# Altium footprint library SMD SOT.PcbLib: 9 footprints
Each footprint in its own frame and in the unit in brackets; x right, y up, seen from the top. Pads: shape width x height; smd on the part's side, far side on the other; paste and mask are expansions set on the pad; w line width, h text height; cw(c..) or ccw(c..) is an arc to the next point about the centre after c.
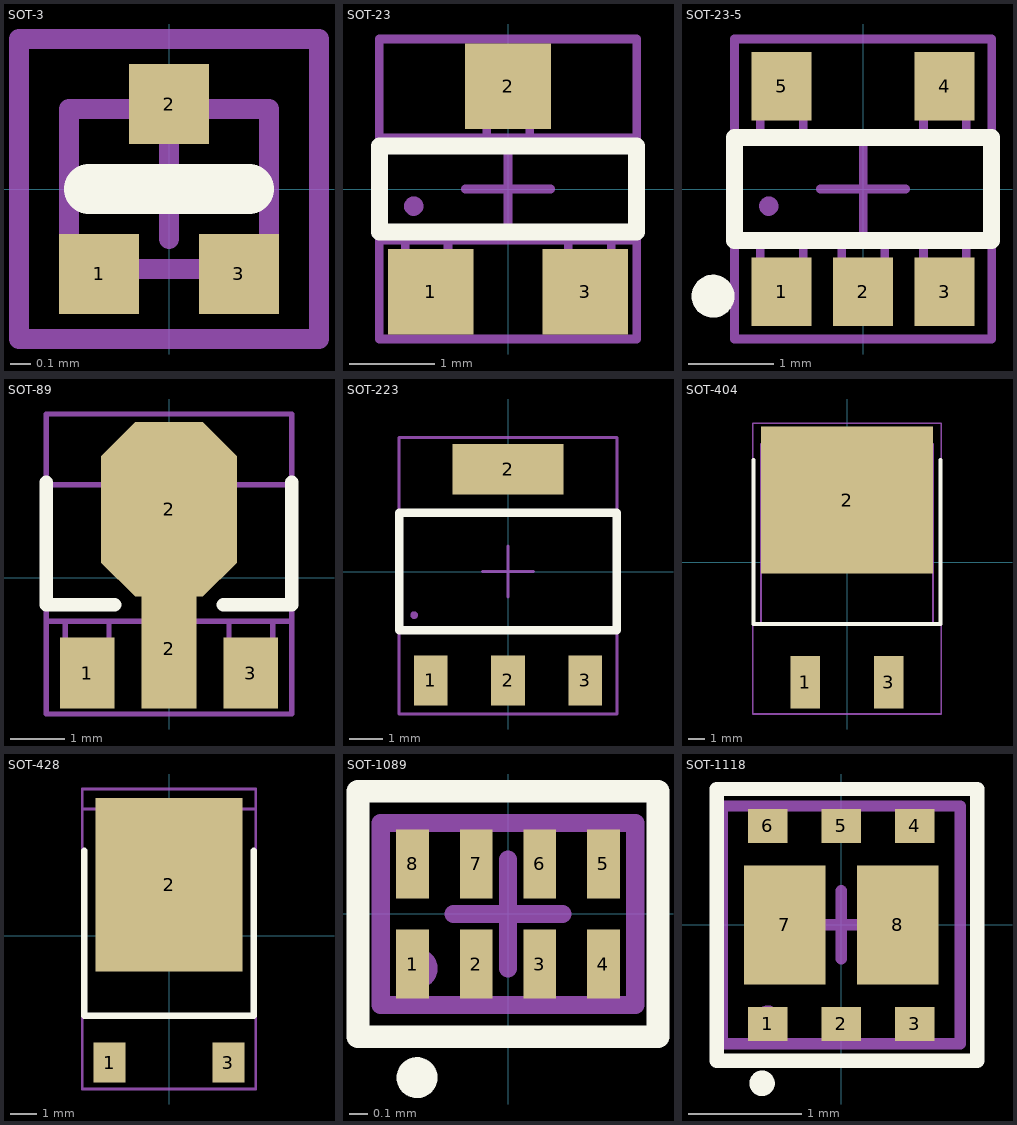
[diagram p0: the footprints below, top view; thin cyan lines are the x and y axes]

## SOT-3 [mm]
pads (3):
  rect 0.4x0.4 smd mask+0.05: 1(-0.35,-0.425) 2(0,0.425) 3(0.35,-0.425)
Top Overlay:
  lines w0.25: -0.4,0 0.4,0
Mechanical 7:
  lines w0.05: -0.75,-0.75 0.75,-0.75 0.75,0.75 -0.75,0.75 -0.75,-0.75
  text ".Designator" at -0.75,-0.25 h0.7
Mechanical 13:
  lines w0.1: -0.4,-0.4 -0.4,-0.5 -0.2,-0.5 -0.2,-0.4 ; -0.1,0.4 -0.1,0.5 0.1,0.5 0.1,0.4 ; 0.2,-0.4 0.2,-0.5 0.4,-0.5 0.4,-0.4 ; -0.5,-0.4 -0.5,0.4 0.5,0.4 0.5,-0.4 -0.5,-0.4
Mechanical 15:
  lines w0.1: -0.25,0 0.25,0 ; 0,-0.25 0,0.25 ; -0.75,-0.75 0.75,-0.75 0.75,0.75 -0.75,0.75 -0.75,-0.75
3D body: height 0.5, standoff 0.04, extent -0.5,-0.4 0.5,0.4

## SOT-23 [mm] "室-46"
pads (3):
  rect 1x1 smd: 1(-0.9,-1.2) 2(0,1.2) 3(0.9,-1.2)
Top Overlay:
  lines w0.2: -1.5,0.5 1.5,0.5 ; -1.5,0.5 -1.5,-0.5 1.5,-0.5 1.5,0.5 ; -1.5,0.5 1.5,0.5
Mechanical 7:
  lines w0.05: -1.5,-1.75 1.5,-1.75 1.5,1.75 -1.5,1.75 -1.5,-1.75
  text ".Designator" at -1.5,-0.5 h1.2
Mechanical 13:
  circle w0.125: c-1.1,-0.2 r0.05
  lines w0.1: -1.2,-0.6 -1.2,-1.2 -0.7,-1.2 -0.7,-0.6 ; -0.248,0.6 -0.247,1.2 0.252,1.2 0.252,0.6 ; 0.705,-0.6 0.705,-1.2 1.205,-1.2 1.205,-0.6 ; -1.5,-0.6 -1.5,0.6 1.5,0.6 1.5,-0.6 -1.5,-0.6
Mechanical 15:
  lines w0.1: -0.5,0 0.5,0 ; 0,-0.5 0,0.5 ; -1.5,-1.75 -1.5,1.75 1.5,1.75 1.5,-1.75 -1.5,-1.75
3D body "SOT-23.STEP": height 1.11, standoff 0.01, extent -1.5,-1.15 1.5,1.15

## SOT-23-5 [mm]
height 2
pads (5):
  rect 0.7x0.8 smd: 1(-0.95,-1.2) 2(0,-1.2) 3(0.95,-1.2) 4(0.95,1.2) 5(-0.95,1.2)
Top Overlay:
  circle w0.25: c-1.75,-1.25 r0.125
  lines w0.2: -1.5,-0.6 -1.5,0.6 1.5,0.6 1.5,-0.6 -1.5,-0.6
Mechanical 7:
  lines w0.05: -1.5,-1.75 -1.5,1.75 1.5,1.75 1.5,-1.75 -1.5,-1.75
  text ".Designator" at -1.5,-0.5 h1.2
Mechanical 13:
  circle w0.125: c-1.1,-0.2 r0.05
  lines w0.1: -1.2,-0.6 -1.2,-1.2 -0.7,-1.2 -0.7,-0.6 ; -1.2,0.6 -1.2,1.2 -0.7,1.2 -0.7,0.6 ; -0.248,-0.6 -0.247,-1.2 0.252,-1.2 0.252,-0.6 ; 0.705,-0.6 0.705,-1.2 1.205,-1.2 1.205,-0.6 ; 0.705,0.6 0.705,1.2 1.205,1.2 1.205,0.6 ; -1.5,-0.6 1.5,-0.6 1.5,0.6 -1.5,0.6 -1.5,-0.6
Mechanical 15:
  lines w0.1: -0.5,0 0.5,0 ; 0,-0.5 0,0.5 ; -1.5,-1.75 1.5,-1.75 1.5,1.75 -1.5,1.75 -1.5,-1.75
3D body "circuitworks-sot-23-5.step": height 1.09, standoff -0.01, extent -1.5,-1.2 1.5,1.3

## SOT-89 [mm]
pads (4):
  rect 1x1.3 smd: 1(-1.5,-1.75) 3(1.5,-1.75)
  rect 1x2.2 smd: 2(0,-1.3)
  oct 2.5x3.2 smd: 2(0,1.25)
Top Overlay:
  lines w0.25: -2.25,1.75 -2.25,-0.5 -1,-0.5 ; 1,-0.5 2.25,-0.5 2.25,1.75
Mechanical 7:
  lines w0.05: -2.25,-2.5 -2.25,3 2.25,3 2.25,-2.5 -2.25,-2.5
  text ".Designator" at -1.5,-0.5 h1.5
Mechanical 13:
  lines w0.1: -1.9,-0.8 -1.9,-1.7 -1.1,-1.7 -1.1,-0.8 ; -1,1.7 -1,2 -0.4,2.6 0.4,2.6 1,2 1,1.7 ; -0.4,-0.8 -0.4,-1.7 0.4,-1.7 0.4,-0.8 ; 1.1,-0.8 1.1,-1.7 1.9,-1.7 1.9,-0.8 ; -2.25,-0.8 2.25,-0.8 2.25,1.7 -2.25,1.7 -2.25,-0.8
Mechanical 15:
  lines w0.1: -0.5,0 0.5,0 ; 0,-0.5 0,0.5 ; -2.25,-2.5 2.25,-2.5 2.25,3 -2.25,3 -2.25,-2.5
3D body "CircuitWorks-SOT-89.step": height 1.51, standoff 0.01, extent -2.25,-1.75 2.25,2.25

## SOT-223 [mm]
height 2
pads (4):
  rect 1x1.5 smd: 1(-2.3,-3.25) 2(0,-3.25) 3(2.3,-3.25)
  rect 3.3x1.5 smd: 2(0,3.05)
Top Overlay:
  lines w0.25: -3.25,-1.75 3.25,-1.75 3.25,1.75 -3.25,1.75 -3.25,-1.75
Mechanical 7:
  lines w0.05: -3.25,-4.25 3.25,-4.25 3.25,4 -3.25,4 -3.25,-4.25
  text ".Designator" at -2.25,-0.5 h1.5
Mechanical 13:
  circle w0.125: c-2.8,-1.3 r0.05
  lines w0.1: -3.25,-1.75 -3.25,1.75 3.25,1.75 3.25,-1.75 -3.25,-1.75
Mechanical 15:
  lines w0.1: -0.75,0 0.75,0 ; 0,-0.75 0,0.75 ; -3.25,-4.25 -3.25,4 3.25,4 3.25,-4.25 -3.25,-4.25
3D body "SOT-223.step": height 1.65, standoff -0.03, extent -3.25,-3.53 3.25,3.43

## SOT-404 [mm] "室-90, D2PAK, 椅-263"
height 5
pads (3):
  rect 1.8x3.2 smd: 1(-2.54,-7.302) 3(2.54,-7.302)
  rect 10.5x9 smd: 2(0,3.81)
Top Overlay:
  lines w0.25: -5.715,6.25 -5.715,-3.75 5.715,-3.75 5.715,6.25
Mechanical 7:
  lines w0.05: -5.75,-9.25 -5.75,8.5 5.75,8.5 5.75,-9.25 -5.75,-9.25
  text ".Designator" at -2.5,-0.5 h1.5
Mechanical 13:
  lines w0.1: -5.25,-3.75 -5.25,7.25 5.25,7.25 5.25,-3.75 -5.25,-3.75
Mechanical 15:
  lines w0.1: -0.5,0 0.5,0 ; 0,-0.5 0,0.5 ; -5.75,-9.25 5.75,-9.25 5.75,8.5 -5.75,8.5 -5.75,-9.25
3D body "D2Pak (TO-263AB).STEP": height 4.9, standoff 0, extent -5.25,-7.9 5.25,7.45

## SOT-428 [mm] "室-89, DPAK, TO-252"
height 2.5
pads (3):
  rect 1.2x1.5 smd: 1(-2.222,-4.763) 3(2.222,-4.763)
  rect 5.5x6.5 smd: 2(0,1.905)
Top Overlay:
  lines w0.25: -3.175,3.175 -3.175,-3 3.175,-3 3.175,3.175
Mechanical 7:
  lines w0.05: -3.25,-5.75 3.25,-5.75 3.25,5.5 -3.25,5.5 -3.25,-5.75
  text ".Designator" at -2.25,-0.5 h1.5
Mechanical 13:
  lines w0.1: -3.25,-3 3.25,-3 3.25,4.75 -3.25,4.75 -3.25,-3
Mechanical 15:
  lines w0.1: -0.5,0 0.5,0 ; 0,-0.5 0,0.5 ; -3.25,-5.75 3.25,-5.75 3.25,5.5 -3.25,5.5 -3.25,-5.75
3D body "D-Pak (TO-252AA).STEP": height 2.43, standoff 0, extent -3.25,-5.28 3.25,4.86

## SOT-1089 [mm]
height 0.5
pads (8):
  rect 0.18x0.38 smd: 1(-0.525,-0.275) 2(-0.175,-0.275) 3(0.175,-0.275) 4(0.525,-0.275) 5(0.525,0.275) 6(0.175,0.275) 7(-0.175,0.275) 8(-0.525,0.275)
Top Overlay:
  circle w0.125: c-0.5,-0.9 r0.05
  lines w0.125: -0.825,-0.675 0.825,-0.675 0.825,0.675 -0.825,0.675 -0.825,-0.675
Mechanical 7:
  lines w0.05: -0.825,-0.675 0.825,-0.675 0.825,0.675 -0.825,0.675 -0.825,-0.675
  text ".Designator" at -0.75,-0.25 h0.7
Mechanical 13:
  circle w0.125: c-0.5,-0.3 r0.05
  lines w0.1: -0.7,-0.5 -0.7,0.5 0.7,0.5 0.7,-0.5 -0.7,-0.5
Mechanical 15:
  lines w0.1: -0.3,0 0.3,0 ; 0,-0.3 0,0.3 ; -0.825,-0.675 -0.825,0.675 0.825,0.675 0.825,-0.675 -0.825,-0.675
3D body: height 0.5, standoff 0, extent -0.7,-0.5 0.7,0.5

## SOT-1118 [mm] "DFN2020-6"
height 0.65
pads (8):
  rect 0.35x0.3 smd: 1(-0.65,-0.875) 2(0,-0.875) 3(0.65,-0.875) 4(0.65,0.875) 5(0,0.875) 6(-0.65,0.875)
  rect 0.72x1.05 smd: 7(-0.5,0) 8(0.5,0)
Top Overlay:
  circle w0.125: c-0.7,-1.4 r0.05
  lines w0.125: -1.1,-1.2 1.2,-1.2 1.2,1.2 -1.1,1.2 -1.1,-1.2
Mechanical 7:
  lines w0.05: -1.1,-1.2 1.2,-1.2 1.2,1.2 -1.1,1.2 -1.1,-1.2
  text ".Designator" at -1,-0.2 h1
Mechanical 13:
  circle w0.125: c-0.65,-0.825 r0.05
  lines w0.1: -1.05,-1.05 -1.05,1.05 1.05,1.05 1.05,-1.05 -1.05,-1.05
Mechanical 15:
  lines w0.1: -0.3,0 0.3,0 ; 0,-0.3 0,0.3 ; -1.1,-1.2 1.2,-1.2 1.2,1.2 -1.1,1.2 -1.1,-1.2
3D body "User Library-PMPB95ENEA.STEP": height 0.65, standoff 0, extent -1,-1 1,1